# EAGLE library part XCV300_CB228 (library xilinx-xcv)
xcv300_cb228 edit this description Auto generated by make-symbol-device-package-bsdl.ulp Rev. 26 Source: xcv300_cb228.bsd
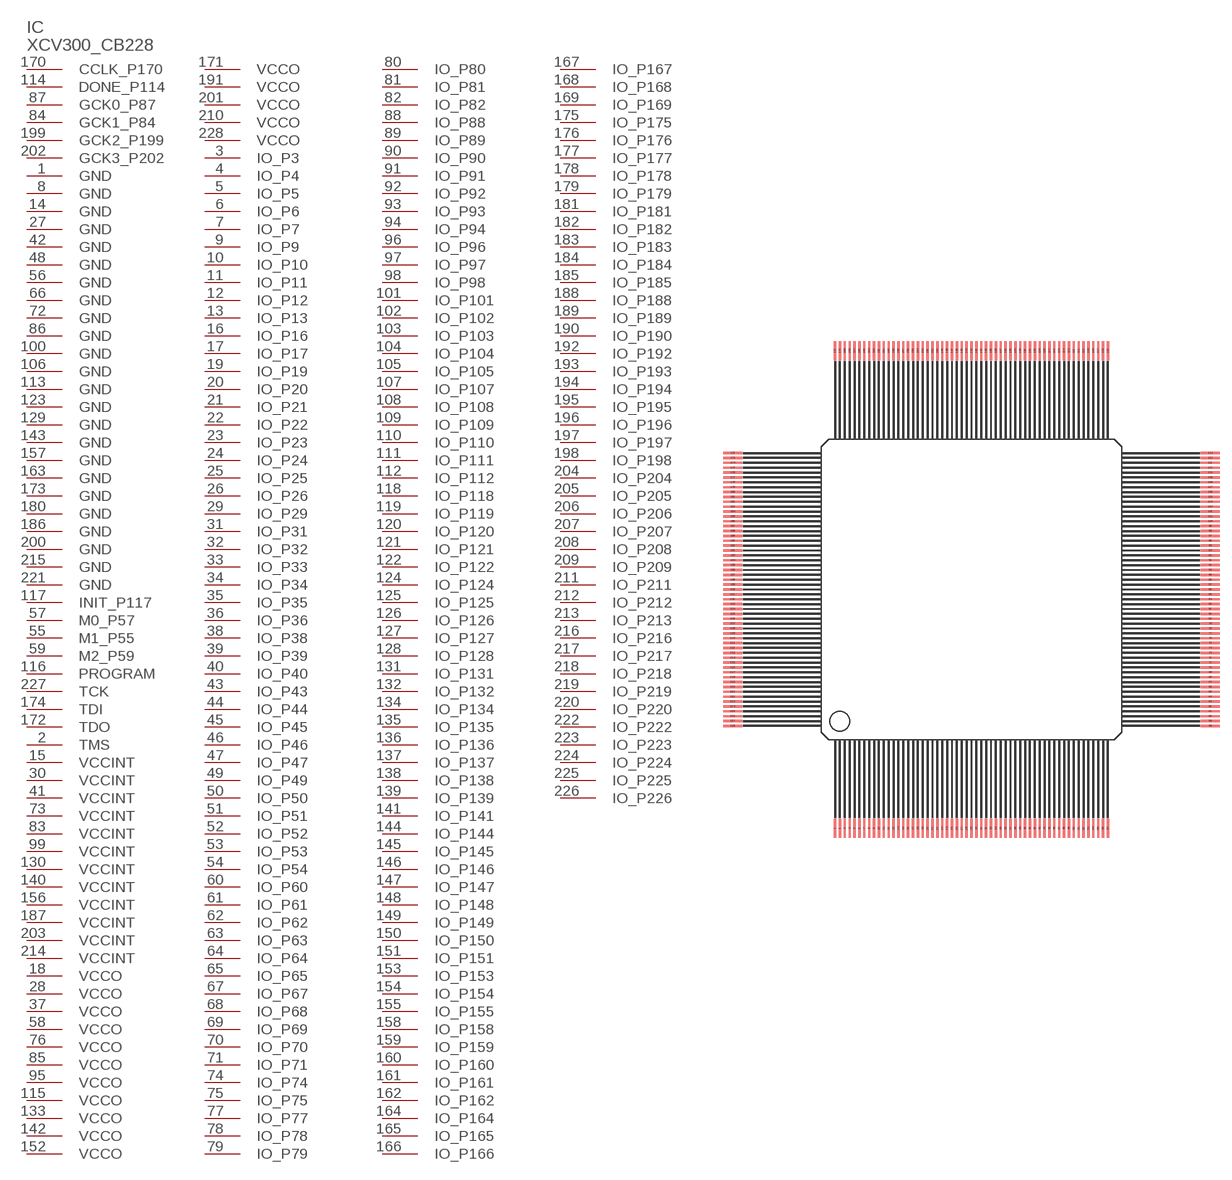
[diagram p80: symbol with the pads of CB228; footprint CB228]

Designator prefix IC

## XCV300_CB228  [CB228]
1  GND  pwr
2  TMS  in
3  IO_P3
4  IO_P4
5  IO_P5
6  IO_P6
7  IO_P7
8  GND  pwr
9  IO_P9
10  IO_P10
11  IO_P11
12  IO_P12
13  IO_P13
14  GND  pwr
15  VCCINT  pwr
16  IO_P16
17  IO_P17
18  VCCO  pwr
19  IO_P19
20  IO_P20
21  IO_P21
22  IO_P22
23  IO_P23
24  IO_P24
25  IO_P25
26  IO_P26
27  GND  pwr
28  VCCO  pwr
29  IO_P29
30  VCCINT  pwr
31  IO_P31
32  IO_P32
33  IO_P33
34  IO_P34
35  IO_P35
36  IO_P36
37  VCCO  pwr
38  IO_P38
39  IO_P39
40  IO_P40
41  VCCINT  pwr
42  GND  pwr
43  IO_P43
44  IO_P44
45  IO_P45
46  IO_P46
47  IO_P47
48  GND  pwr
49  IO_P49
50  IO_P50
51  IO_P51
52  IO_P52
53  IO_P53
54  IO_P54
55  M1_P55  in
56  GND  pwr
57  M0_P57  in
58  VCCO  pwr
59  M2_P59  in
60  IO_P60
61  IO_P61
62  IO_P62
63  IO_P63
64  IO_P64
65  IO_P65
66  GND  pwr
67  IO_P67
68  IO_P68
69  IO_P69
70  IO_P70
71  IO_P71
72  GND  pwr
73  VCCINT  pwr
74  IO_P74
75  IO_P75
76  VCCO  pwr
77  IO_P77
78  IO_P78
79  IO_P79
80  IO_P80
81  IO_P81
82  IO_P82
83  VCCINT  pwr
84  GCK1_P84  in
85  VCCO  pwr
86  GND  pwr
87  GCK0_P87  in
88  IO_P88
89  IO_P89
90  IO_P90
91  IO_P91
92  IO_P92
93  IO_P93
94  IO_P94
95  VCCO  pwr
96  IO_P96
97  IO_P97
98  IO_P98
99  VCCINT  pwr
100  GND  pwr
101  IO_P101
102  IO_P102
103  IO_P103
104  IO_P104
105  IO_P105
106  GND  pwr
107  IO_P107
108  IO_P108
109  IO_P109
110  IO_P110
111  IO_P111
112  IO_P112
113  GND  pwr
114  DONE_P114
115  VCCO  pwr
116  PROGRAM  in
117  INIT_P117
118  IO_P118
119  IO_P119
120  IO_P120
121  IO_P121
122  IO_P122
123  GND  pwr
124  IO_P124
125  IO_P125
126  IO_P126
127  IO_P127
128  IO_P128
129  GND  pwr
130  VCCINT  pwr
131  IO_P131
132  IO_P132
133  VCCO  pwr
134  IO_P134
135  IO_P135
136  IO_P136
137  IO_P137
138  IO_P138
139  IO_P139
140  VCCINT  pwr
141  IO_P141
142  VCCO  pwr
143  GND  pwr
144  IO_P144
145  IO_P145
146  IO_P146
147  IO_P147
148  IO_P148
149  IO_P149
150  IO_P150
151  IO_P151
152  VCCO  pwr
153  IO_P153
154  IO_P154
155  IO_P155
156  VCCINT  pwr
157  GND  pwr
158  IO_P158
159  IO_P159
160  IO_P160
161  IO_P161
162  IO_P162
163  GND  pwr
164  IO_P164
165  IO_P165
166  IO_P166
167  IO_P167
168  IO_P168
169  IO_P169
170  CCLK_P170
171  VCCO  pwr
172  TDO  out
173  GND  pwr
174  TDI  in
175  IO_P175
176  IO_P176
177  IO_P177
178  IO_P178
179  IO_P179
180  GND  pwr
181  IO_P181
182  IO_P182
183  IO_P183
184  IO_P184
185  IO_P185
186  GND  pwr
187  VCCINT  pwr
188  IO_P188
189  IO_P189
190  IO_P190
191  VCCO  pwr
192  IO_P192
193  IO_P193
194  IO_P194
195  IO_P195
196  IO_P196
197  IO_P197
198  IO_P198
199  GCK2_P199  in
200  GND  pwr
201  VCCO  pwr
202  GCK3_P202  in
203  VCCINT  pwr
204  IO_P204
205  IO_P205
206  IO_P206
207  IO_P207
208  IO_P208
209  IO_P209
210  VCCO  pwr
211  IO_P211
212  IO_P212
213  IO_P213
214  VCCINT  pwr
215  GND  pwr
216  IO_P216
217  IO_P217
218  IO_P218
219  IO_P219
220  IO_P220
221  GND  pwr
222  IO_P222
223  IO_P223
224  IO_P224
225  IO_P225
226  IO_P226
227  TCK  in
228  VCCO  pwr

## Footprint CB228 (pad centres in mm)
Ceramic Brazed CQFP (CB228) Package Source: cb228.pdf
smd 0.305 x 2.54: 1 -17.78,-31.115; 2 -17.145,-31.115; 3 -16.51,-31.115; 4 -15.875,-31.115; 5 -15.24,-31.115; 6 -14.605,-31.115; 7 -13.97,-31.115; 8 -13.335,-31.115; 9 -12.7,-31.115; 10 -12.065,-31.115; 11 -11.43,-31.115; 12 -10.795,-31.115; 13 -10.16,-31.115; 14 -9.525,-31.115; 15 -8.89,-31.115; 16 -8.255,-31.115; 17 -7.62,-31.115; 18 -6.985,-31.115; 19 -6.35,-31.115; 20 -5.715,-31.115; 21 -5.08,-31.115; 22 -4.445,-31.115; 23 -3.81,-31.115; 24 -3.175,-31.115; 25 -2.54,-31.115; 26 -1.905,-31.115; 27 -1.27,-31.115; 28 -0.635,-31.115; 29 0,-31.115; 30 0.635,-31.115; 31 1.27,-31.115; 32 1.905,-31.115; 33 2.54,-31.115; 34 3.175,-31.115; 35 3.81,-31.115; 36 4.445,-31.115; 37 5.08,-31.115; 38 5.715,-31.115; 39 6.35,-31.115; 40 6.985,-31.115; 41 7.62,-31.115; 42 8.255,-31.115; 43 8.89,-31.115; 44 9.525,-31.115; 45 10.16,-31.115; 46 10.795,-31.115; 47 11.43,-31.115; 48 12.065,-31.115; 49 12.7,-31.115; 50 13.335,-31.115; 51 13.97,-31.115; 52 14.605,-31.115; 53 15.24,-31.115; 54 15.875,-31.115; 55 16.51,-31.115; 56 17.145,-31.115; 57 17.78,-31.115; 115 17.78,31.115; 116 17.145,31.115; 117 16.51,31.115; 118 15.875,31.115; 119 15.24,31.115; 120 14.605,31.115; 121 13.97,31.115; 122 13.335,31.115; 123 12.7,31.115; 124 12.065,31.115; 125 11.43,31.115; 126 10.795,31.115; 127 10.16,31.115; 128 9.525,31.115; 129 8.89,31.115; 130 8.255,31.115; 131 7.62,31.115; 132 6.985,31.115; 133 6.35,31.115; 134 5.715,31.115; 135 5.08,31.115; 136 4.445,31.115; 137 3.81,31.115; 138 3.175,31.115; 139 2.54,31.115; 140 1.905,31.115; 141 1.27,31.115; 142 0.635,31.115; 143 0,31.115; 144 -0.635,31.115; 145 -1.27,31.115; 146 -1.905,31.115; 147 -2.54,31.115; 148 -3.175,31.115; 149 -3.81,31.115; 150 -4.445,31.115; 151 -5.08,31.115; 152 -5.715,31.115; 153 -6.35,31.115; 154 -6.985,31.115; 155 -7.62,31.115; 156 -8.255,31.115; 157 -8.89,31.115; 158 -9.525,31.115; 159 -10.16,31.115; 160 -10.795,31.115; 161 -11.43,31.115; 162 -12.065,31.115; 163 -12.7,31.115; 164 -13.335,31.115; 165 -13.97,31.115; 166 -14.605,31.115; 167 -15.24,31.115; 168 -15.875,31.115; 169 -16.51,31.115; 170 -17.145,31.115; 171 -17.78,31.115
smd 2.54 x 0.305: 58 31.115,-17.78; 59 31.115,-17.145; 60 31.115,-16.51; 61 31.115,-15.875; 62 31.115,-15.24; 63 31.115,-14.605; 64 31.115,-13.97; 65 31.115,-13.335; 66 31.115,-12.7; 67 31.115,-12.065; 68 31.115,-11.43; 69 31.115,-10.795; 70 31.115,-10.16; 71 31.115,-9.525; 72 31.115,-8.89; 73 31.115,-8.255; 74 31.115,-7.62; 75 31.115,-6.985; 76 31.115,-6.35; 77 31.115,-5.715; 78 31.115,-5.08; 79 31.115,-4.445; 80 31.115,-3.81; 81 31.115,-3.175; 82 31.115,-2.54; 83 31.115,-1.905; 84 31.115,-1.27; 85 31.115,-0.635; 86 31.115,0; 87 31.115,0.635; 88 31.115,1.27; 89 31.115,1.905; 90 31.115,2.54; 91 31.115,3.175; 92 31.115,3.81; 93 31.115,4.445; 94 31.115,5.08; 95 31.115,5.715; 96 31.115,6.35; 97 31.115,6.985; 98 31.115,7.62; 99 31.115,8.255; 100 31.115,8.89; 101 31.115,9.525; 102 31.115,10.16; 103 31.115,10.795; 104 31.115,11.43; 105 31.115,12.065; 106 31.115,12.7; 107 31.115,13.335; 108 31.115,13.97; 109 31.115,14.605; 110 31.115,15.24; 111 31.115,15.875; 112 31.115,16.51; 113 31.115,17.145; 114 31.115,17.78; 172 -31.115,17.78; 173 -31.115,17.145; 174 -31.115,16.51; 175 -31.115,15.875; 176 -31.115,15.24; 177 -31.115,14.605; 178 -31.115,13.97; 179 -31.115,13.335; 180 -31.115,12.7; 181 -31.115,12.065; 182 -31.115,11.43; 183 -31.115,10.795; 184 -31.115,10.16; 185 -31.115,9.525; 186 -31.115,8.89; 187 -31.115,8.255; 188 -31.115,7.62; 189 -31.115,6.985; 190 -31.115,6.35; 191 -31.115,5.715; 192 -31.115,5.08; 193 -31.115,4.445; 194 -31.115,3.81; 195 -31.115,3.175; 196 -31.115,2.54; 197 -31.115,1.905; 198 -31.115,1.27; 199 -31.115,0.635; 200 -31.115,0; 201 -31.115,-0.635; 202 -31.115,-1.27; 203 -31.115,-1.905; 204 -31.115,-2.54; 205 -31.115,-3.175; 206 -31.115,-3.81; 207 -31.115,-4.445; 208 -31.115,-5.08; 209 -31.115,-5.715; 210 -31.115,-6.35; 211 -31.115,-6.985; 212 -31.115,-7.62; 213 -31.115,-8.255; 214 -31.115,-8.89; 215 -31.115,-9.525; 216 -31.115,-10.16; 217 -31.115,-10.795; 218 -31.115,-11.43; 219 -31.115,-12.065; 220 -31.115,-12.7; 221 -31.115,-13.335; 222 -31.115,-13.97; 223 -31.115,-14.605; 224 -31.115,-15.24; 225 -31.115,-15.875; 226 -31.115,-16.51; 227 -31.115,-17.145; 228 -31.115,-17.78